# Altium footprint library 282856-2.PcbLib: 2 footprints
Each footprint in its own frame and in the unit in brackets; x right, y up, seen from the top. Pads: shape width x height; smd on the part's side, far side on the other; paste and mask are expansions set on the pad; w line width, h text height; cw(c..) or ccw(c..) is an arc to the next point about the centre after c.
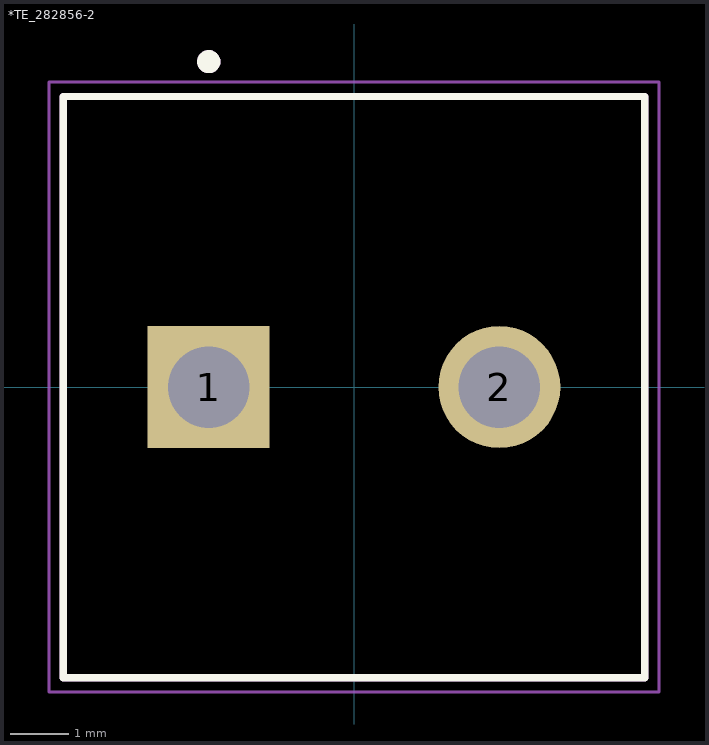
[diagram p0: the footprints below, top view; thin cyan lines are the x and y axes]

## *TE_282856-2 [mm]
pads (2):
  rect 2.1x2.1 hole 1.4: 1(-2.5,0)
  round 2.1 hole 1.4: 2(2.5,0)
Top Overlay:
  circle w0.2: c-2.5,5.6 r0.1
  lines w0.127: -5,-5 -5,5 5,5 5,-5 -5,-5
Mechanical 4:
  circle w0.2: c-2.5,5.6 r0.1
  circle w0.2: c-2.5,5.6 r0.1
  lines w0.127: -5,-5 -5,5 ; -5,-5 5,-5 ; -5,-5 -5,5 ; -5,-5 5,-5 ; -5,5 5,5 ; -5,5 5,5 ; 5,-5 5,5 ; 5,-5 5,5
Mechanical 16:
  lines w0.05: -5.25,-5.25 -5.25,5.25 5.25,5.25 5.25,-5.25 -5.25,-5.25

## PCBComponent_1 [mm]